# Altium footprint library 694108106102.PcbLib: 1 footprints
Each footprint in its own frame and in the unit in brackets; x right, y up, seen from the top. Pads: shape width x height; smd on the part's side, far side on the other; paste and mask are expansions set on the pad; w line width, h text height; cw(c..) or ccw(c..) is an arc to the next point about the centre after c.
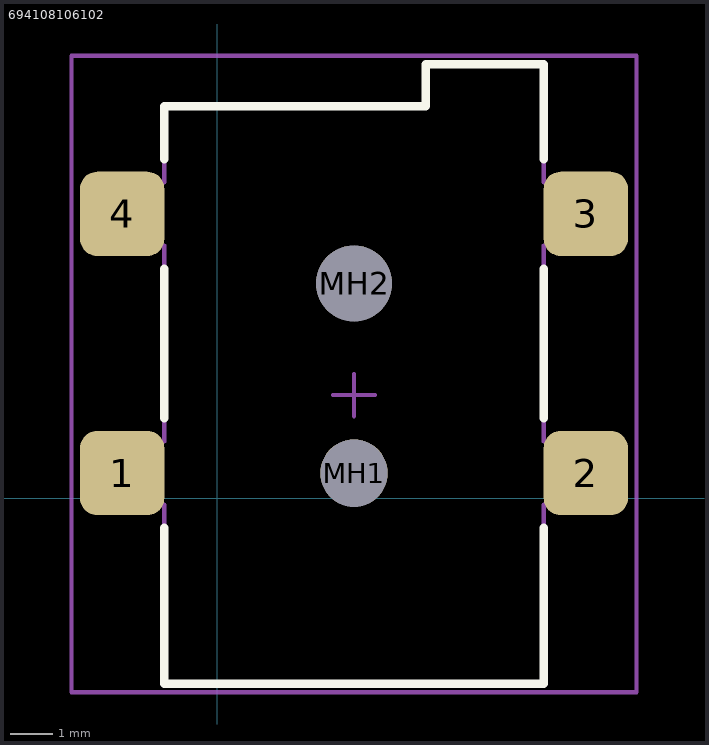
[diagram p0: the footprint, top view; thin cyan lines are the x and y axes]

## 694108106102 [mm]
pads (6):
  rrect40% 2x2 smd paste-0.02 mask+0.05: 1(-2.261,0.599) 2(8.739,0.599) 3(8.739,6.749) 4(-2.261,6.749)
  round 1.6 hole 1.6 unplated: MH1(3.239,0.599)
  round 1.8 hole 1.8 unplated: MH2(3.239,5.099)
Top Overlay:
  lines w0.2: -1.261,-0.701 -1.261,-4.401 7.739,-4.401 7.739,-0.701 ; -1.261,1.899 -1.261,5.449 ; -1.261,8.049 -1.261,9.299 4.939,9.299 4.939,10.299 7.739,10.299 7.739,8.049 ; 7.739,1.899 7.739,5.449
Top Assembly:
  lines w0.1: -3.011,-0.151 -3.011,1.349 -1.261,1.349 -1.261,5.999 -3.011,5.999 -3.011,7.499 -1.261,7.499 -1.261,9.299 4.939,9.299 4.939,10.299 7.739,10.299 7.739,7.499 9.489,7.499 9.489,5.999 7.739,5.999 7.739,1.349 9.489,1.349 9.489,-0.151 7.739,-0.151 7.739,-4.401 -1.261,-4.401 -1.261,-0.151 -3.011,-0.151
Top Courtyard:
  lines w0.1: 2.739,2.449 3.739,2.449 ; 3.239,1.949 3.239,2.949 ; -3.461,-4.601 -3.461,10.499 9.939,10.499 9.939,-4.601 -3.461,-4.601
3D body "694108106102.stp": height 11.05, standoff -1.15, extent -3.011,-4.401 9.489,10.299